# Altium footprint library RDA5981.PcbLib: 33 footprints (part 1 of 3)
Each footprint in its own frame and in the unit in brackets; x right, y up, seen from the top. Pads: shape width x height; smd on the part's side, far side on the other; paste and mask are expansions set on the pad; w line width, h text height; cw(c..) or ccw(c..) is an arc to the next point about the centre after c.
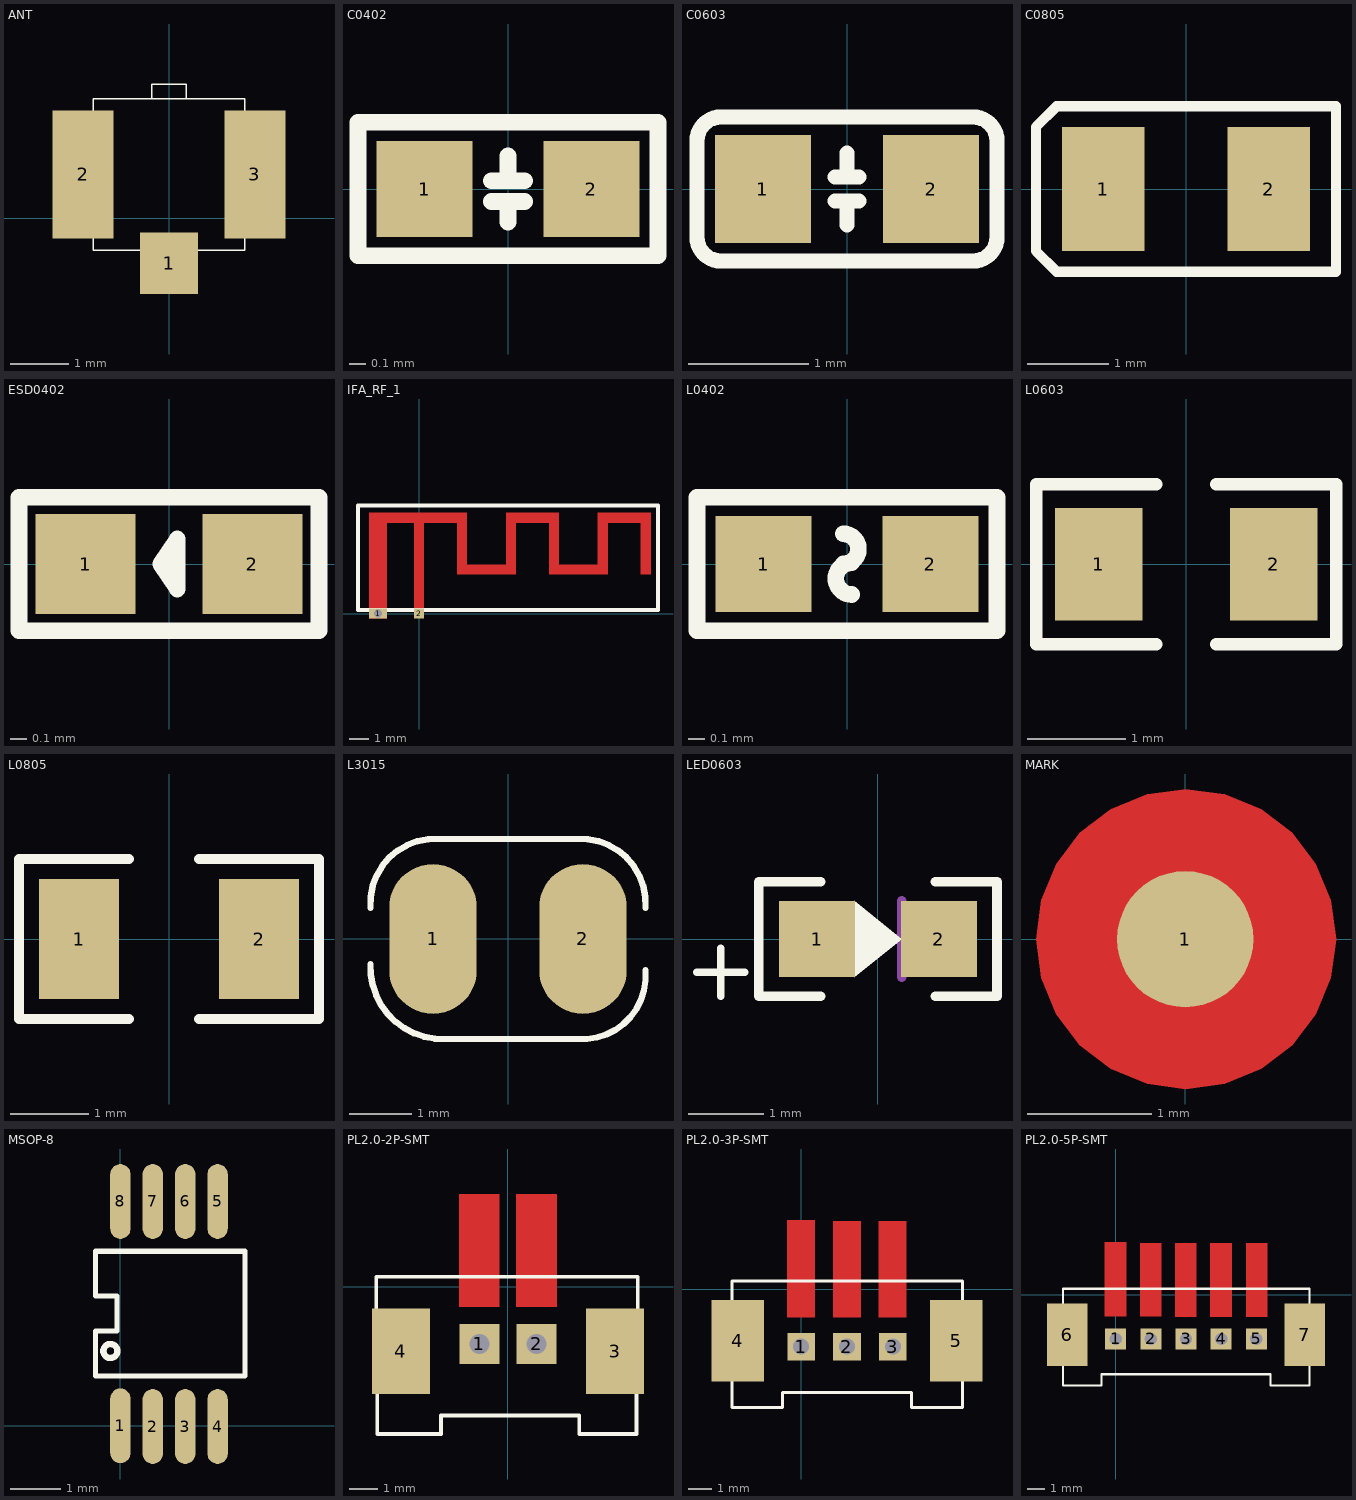
[diagram p0: the footprints below, top view; thin cyan lines are the x and y axes]

## ANT [mm]
pads (3):
  rect 1x1.05 smd: 1(0,-0.775)
  rect 1.05x2.2 smd: 2(-1.475,0.75) 3(1.475,0.75)
Top Overlay:
  lines w0.025: -1.3,-0.15 -1.5,-0.15 -1.5,1.65 -1.3,1.65 ; -0.3,-0.55 -0.3,-0.8 0.3,-0.8 0.3,-0.55 ; -0.3,2.05 -0.3,2.3 0.3,2.3 0.3,2.05 ; 1.3,-0.15 1.5,-0.15 1.5,1.65 1.3,1.65 ; -1.3,-0.55 1.3,-0.55 1.3,2.05 -1.3,2.05 -1.3,-0.55

## C0402 [mm]
pads (2):
  rect 0.575x0.575 smd: 1(-0.5,0) 2(0.5,0)
Top Overlay:
  lines w0.1: -0.1,-0.075 0.1,-0.075 ; -0.1,0.05 0.1,0.05 ; 0,-0.2 0,-0.1 ; 0,0.1 0,0.2 ; -0.9,-0.4 -0.9,0.4 0.9,0.4 0.9,-0.4 -0.9,-0.4

## C0603 [mil]
height 31
pads (2):
  rect 31.5x35.4 smd: 1(-27.56,0) 2(27.56,0)
Top Overlay:
  lines w5: -3.94,-3.94 3.94,-3.94 ; -3.94,3.94 3.94,3.94 ; 0,-11.81 0,-3.94 ; 0,3.94 0,11.81 ; -49.21,-15.75 ccw(c-41.34,-15.75) -41.34,-23.62 41.34,-23.62 ccw(c41.34,-15.75) 49.21,-15.75 49.21,15.75 ccw(c41.34,15.75) 41.34,23.62 -41.34,23.62 ccw(c-41.34,15.75) -49.21,15.75 -49.21,-15.75

## C0805 [mil]
pads (2):
  rect 40x60 smd mask+3: 1(-40,0) 2(40,0)
Top Overlay:
  lines w5: -72.5,-30 -62.5,-40 72.5,-40 72.5,40 -62.5,40 -72.5,30 -72.5,-30
Mechanical 2:
  lines w1: -40,-25 -40,25 ; 40,-25 40,25

## ESD0402 [mm]
height 0.483
pads (2):
  rect 0.599x0.599 smd: 1(-0.5,0) 2(0.5,0)
Top Overlay:
  lines w0.1: -0.9,-0.4 -0.9,0.4 0.9,0.4 0.9,-0.4 -0.9,-0.4 ; -0.05,0 0.05,-0.15 0.05,0.15 -0.05,0

## IFA_RF_1 [mm]
pads (2):
  rect 0.9x0.5 / inner rect 0.9x0.5 / far side oval 0.7x0.5 hole 0.4: 1(-2.1,0)
  rect 0.5x0.5 smd: 2(0,0)
Top Layer:
  region: -1.65,-0.25 -1.65,5.15 -2.549,5.15 -2.549,-0.25
  region: 0.25,0.092 0.25,4.9 -0.251,4.9 -0.251,0.092
  region: 2.4,5.15 -2.1,5.15 -2.1,4.651 2.4,4.651
  region: 4.95,2.01 4.95,2.51 1.95,2.51 1.95,2.01
  region: 4.95,2.01 4.95,5.15 4.449,5.15 4.449,2.01
  region: 2.45,2.01 2.45,5.15 1.95,5.15 1.95,2.01
  region: 7.15,4.65 7.15,5.15 4.449,5.15 4.449,4.65
  region: 9.65,2.01 9.65,2.51 6.949,2.51 6.949,2.01
  region: 11.85,2.01 11.85,5.15 11.35,5.15 11.35,2.01
  region: 9.65,2.01 9.65,5.15 9.15,5.15 9.15,2.01
  region: 7.15,2.01 7.15,5.15 6.65,5.15 6.65,2.01
  region: 11.85,4.651 11.85,5.15 9.15,5.15 9.15,4.651
Top Overlay:
  lines w0.2: -3.125,0.175 12.225,0.175 12.225,5.525 -3.125,5.525 -3.125,0.175

## L0402 [mm]
height 0.483
pads (2):
  rect 0.575x0.575 smd: 1(-0.5,0) 2(0.5,0)
Top Overlay:
  lines w0.1: -0.022,0 ccw(c-0.022,0.091) -0.022,0.181 ; 0.029,-0.183 cw(c0.029,-0.087) 0.029,0.009 ; -0.9,-0.4 -0.9,0.4 0.9,0.4 0.9,-0.4 -0.9,-0.4

## L0603 [mil]
pads (2):
  rect 35x45 smd mask+3: 1(-35,0) 2(35,0)
Top Overlay:
  lines w5: -12,-32 -60,-32 -60,32 -12,32 ; 12,-32 60,-32 60,32 12,32
Mechanical 2:
  lines w1: -30,-15 -30,15 ; 30,-15 30,15

## L0805 [mil]
pads (2):
  rect 40x60 smd mask+3: 1(-45,0) 2(45,0)
Top Overlay:
  lines w5: -20,-40 -75,-40 -75,40 -20,40 ; 15,-40 75,-40 75,40 15,40
Mechanical 2:
  lines w1: -40,-25 -40,25 ; 40,-25 40,25

## L3015 [mm]
pads (2):
  oval 1.4x2.4 smd: 1(-1.2,0.001) 2(1.2,0.001)
Top Overlay:
  lines w0.102: -2.201,-0.399 ccw(c-1.051,-0.449) -1.001,-1.599 1.099,-1.599 ccw(c1.189,-0.589) 2.199,-0.499 ; -2.201,0.501 cw(c-1.171,0.571) -1.101,1.601 1.099,1.601 cw(c1.17,0.571) 2.199,0.501

## LED0603 [mil]
pads (2):
  rect 40x40 smd mask+3: 1(-32,0) 2(32,0)
Top Overlay:
  region: 12.5,0 -12.5,-20 -12.5,20
  lines w4: -95,-17.5 -70,-17.5 ; -82.5,-30 -82.5,-5
  lines w5: -30,-30 -62.5,-30 -62.5,30 -30,30 ; 30,-30 62.5,-30 62.5,30 30,30
Mechanical 2:
  lines w1: -35,-17.5 -35,17.5 ; 35,-17.5 35,17.5
  lines w5: -25,0 25,0 ; 12.5,-20 12.5,20

## MARK [mm]
height 0.1
pads (1):
  round 1.1 smd: 1(0,0)
Top Layer:
  region: 1.216,0.001 1.175,0.314 1.054,0.606 0.862,0.857 0.611,1.049 0.319,1.17 0.006,1.211 -0.307,1.17 -0.599,1.049 -0.85,0.857 -1.042,0.606 -1.163,0.314 -1.204,0.001 -1.163,-0.312 -1.042,-0.604 -0.85,-0.855 -0.599,-1.047 -0.307,-1.168 0.006,-1.209 0.319,-1.168 0.611,-1.047 0.862,-0.855 1.054,-0.604 1.175,-0.312
Top Solder:
  region: 1.176,0 1.136,0.304 1.019,0.588 0.832,0.832 0.588,1.019 0.304,1.136 0,1.176 -0.304,1.136 -0.588,1.019 -0.832,0.832 -1.019,0.588 -1.136,0.304 -1.176,0 -1.136,-0.304 -1.019,-0.588 -0.832,-0.832 -0.588,-1.019 -0.304,-1.136 0,-1.176 0.304,-1.136 0.588,-1.019 0.832,-0.832 1.019,-0.588 1.136,-0.304

## MSOP-8 [mm]
pads (8):
  oval 0.409x1.501 smd: 1(0,0) 2(0.65,-0.016) 3(1.3,-0.016) 4(1.95,-0.016) 5(1.95,4.5) 6(1.3,4.5) 7(0.65,4.5) 8(0,4.5)
Top Overlay:
  circle w0.127: c-0.2,1.5 r0.141
  lines w0.102: -0.5,1 -0.5,1.9 -0.067,1.9 -0.067,2.6 -0.5,2.6 -0.5,3.5 2.5,3.5 2.5,1 -0.5,1

## PL2.0-2P-SMT [mm]
pads (4):
  rect 1.4x1.4 hole 0.7: 1(-1,-2) 2(1,-2)
  rect 2.03x3 smd: 3(3.75,-2.25) 4(-3.75,-2.25)
Top Layer:
  region: 0.295,3.249 1.699,3.249 1.699,-0.702 0.295,-0.702
  region: -1.706,3.25 -0.302,3.25 -0.302,-0.694 -1.706,-0.694
Top Overlay:
  lines w0.127: 4.513,-0.95 3.893,-0.95 3.893,-3.15 4.498,-3.15 4.498,-5.15 2.491,-5.15 2.491,-4.502 -2.343,-4.502 -2.343,-5.15 -4.57,-5.15 -4.57,-3.15 -3.819,-3.15 -3.819,-0.95 -4.606,-0.95 -4.606,0.35 4.537,0.35 4.537,-0.95

## PL2.0-3P-SMT [mm]
pads (5):
  rect 1.2x1.2 hole 0.7: 1(0,-2.5) 2(2,-2.5) 3(4,-2.5)
  rect 2.286x3.556 smd: 4(-2.75,-2.25) 5(6.75,-2.25)
Top Layer:
  region: 3.385,2.952 4.588,2.952 4.588,-1.228 3.385,-1.228
  region: 1.397,2.947 2.6,2.947 2.6,-1.215 1.397,-1.215
  region: -0.606,2.989 0.598,2.989 0.598,-1.222 -0.606,-1.222
Top Overlay:
  lines w0.127: 6.985,-0.985 7.02,-0.95 7.02,0.35 -3,0.35 -3,-0.95 -2,-0.95 -2,-3.15 -3,-3.15 -3,-5.15 -0.81,-5.15 -0.81,-4.502 4.81,-4.502 4.81,-5.15 7.02,-5.15 7.02,-3.15 6.02,-3.15 6.02,-0.95 7.125,-0.95

## PL2.0-5P-SMT [mm]
pads (7):
  rect 1.2x1.2 hole 0.7: 1(0,-2.5) 2(2,-2.5) 3(4,-2.5) 4(6,-2.5) 5(8,-2.5)
  rect 2.286x3.556 smd: 6(-2.75,-2.25) 7(10.75,-2.25)
Top Layer:
  region: 7.415,2.952 8.619,2.952 8.619,-1.242 7.415,-1.242
  region: 5.389,2.952 6.592,2.952 6.592,-1.228 5.389,-1.228
  region: 3.385,2.952 4.588,2.952 4.588,-1.228 3.385,-1.228
  region: 1.397,2.947 2.6,2.947 2.6,-1.215 1.397,-1.215
  region: -0.606,2.989 0.598,2.989 0.598,-1.222 -0.606,-1.222
Top Overlay:
  lines w0.127: 10.02,-0.95 11.02,-0.95 ; 10.02,-0.95 10.02,-3.15 11.02,-3.15 11.02,-3.85 11.02,-5.15 8.81,-5.15 8.81,-4.502 6.81,-4.502 -0.81,-4.502 -0.81,-5.15 -3,-5.15 -3,-3.85 -3,-3.15 -2,-3.15 -2,-0.95 -3,-0.95 -3,0.35 9.02,0.35 11.02,0.35 11.02,-0.95 ; 10.02,-0.95 11.02,-0.95